# Altium schematic symbol library 5V_REG.SchLib: 1 symbol
Pins are listed as number, name and electrical type; pins without a type are passive.

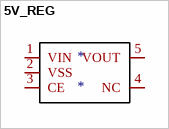
[diagram p0: symbol 5V_REG]

## 5V_REG
designator *
ME6211C50M5G-N
footprint PCBComponent_1 (SOT-23-5_L3.0-W1.7-P0.95-LS2.8-BL)
pins: 1 VIN, 2 VSS, 3 CE, 4 NC, 5 VOUT